# Altium footprint library SIM Card.PcbLib: 7 footprints
Each footprint in its own frame and in the unit in brackets; x right, y up, seen from the top. Pads: shape width x height; smd on the part's side, far side on the other; paste and mask are expansions set on the pad; w line width, h text height; cw(c..) or ccw(c..) is an arc to the next point about the centre after c.
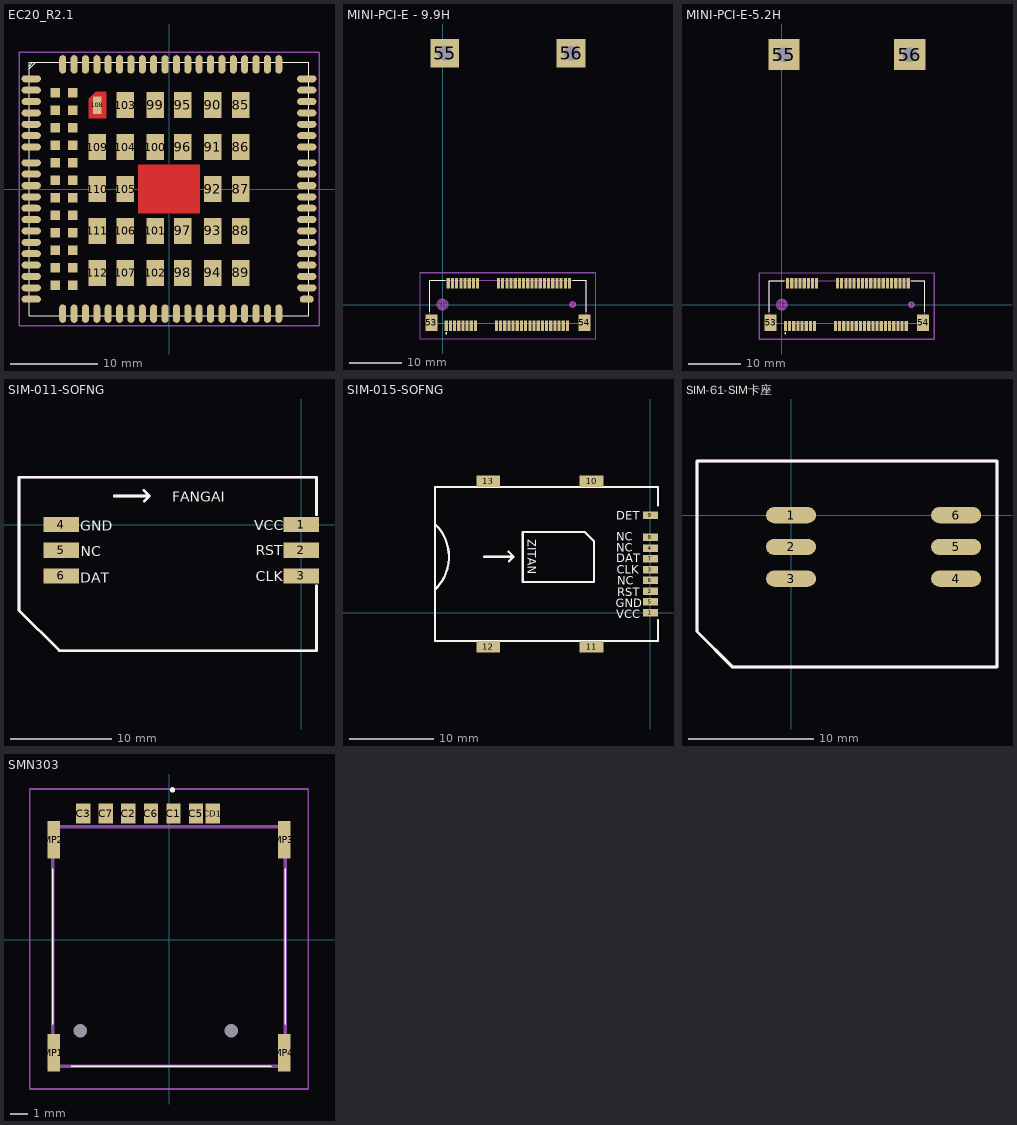
[diagram p0: the footprints below, top view; thin cyan lines are the x and y axes]

## EC20_R2.1 [mm]
pads (132):
  oval 2.2x0.8 smd mask+0.05: 1(-15.75,12.6) 2(-15.75,11.3) 3(-15.75,10) 4(-15.75,8.7) 5(-15.75,7.4) 6(-15.75,6.1) 7(-15.75,4.8) 8(-15.75,0.4) 9(-15.75,-0.9) 10(-15.75,-2.2) 11(-15.75,-3.5) 12(-15.75,-4.8) 13(-15.75,-6.1) 14(-15.75,-7.4) 15(-15.75,-8.7) 16(-15.75,-10) 17(-15.75,-11.3) 18(-15.75,-12.6) 38(15.75,-11.3) 39(15.75,-10) 40(15.75,-8.7) 41(15.75,-7.4) 42(15.75,-6.1) 43(15.75,-4.8) 44(15.75,-3.5) 45(15.75,-2.2) 46(15.75,-0.9) 47(15.75,0.4) 48(15.75,4.8) 49(15.75,6.1) 50(15.75,7.4) 51(15.75,8.7) 52(15.75,10) 53(15.75,11.3) 54(15.75,12.6) 141(-15.75,3) 142(-15.75,1.7) 143(15.75,1.7) 144(15.75,3)
  oval 0.8x2.1 smd mask+0.05: 19(-9.55,-14.25) 20(-8.25,-14.25) 21(-6.95,-14.25) 22(-5.65,-14.25) 23(-4.35,-14.25) 24(-3.05,-14.25) 25(-1.75,-14.25) 26(-0.45,-14.25) 27(0.85,-14.25) 28(2.15,-14.25) 29(3.45,-14.25) 30(4.75,-14.25) 31(6.05,-14.25) 32(7.35,-14.25) 33(8.65,-14.25) 34(9.95,-14.25) 35(11.25,-14.25) 36(12.55,-14.25) 55(12.55,14.25) 56(11.25,14.25) 57(9.95,14.25) 58(8.65,14.25) 59(7.35,14.25) 60(6.05,14.25) 61(4.75,14.25) 62(3.45,14.25) 63(2.15,14.25) 64(0.85,14.25) 65(-0.45,14.25) 66(-1.75,14.25) 67(-3.05,14.25) 68(-4.35,14.25) 69(-5.65,14.25) 70(-6.95,14.25) 71(-8.25,14.25) 72(-9.55,14.25) 113(-10.85,14.25) 114(-12.15,14.25) 115(-10.85,-14.25) 116(-12.15,-14.25)
  oval 1.6x0.8 smd mask+0.05: 37(15.75,-12.6)
  rect 2x3 smd mask+0.05: 85(8.2,9.6) 86(8.2,4.8) 87(8.2,0) 88(8.2,-4.8) 89(8.2,-9.6) 90(5,9.6) 91(5,4.8) 92(5,0) 93(5,-4.8) 94(5,-9.6) 95(1.6,9.6) 96(1.6,4.8) 97(1.6,-4.8) 98(1.6,-9.6) 99(-1.6,9.6) 100(-1.6,4.8) 101(-1.6,-4.8) 102(-1.6,-9.6) 103(-5,9.6) 104(-5,4.8) 105(-5,0) 106(-5,-4.8) 107(-5,-9.6) 109(-8.2,4.8) 110(-8.2,0) 111(-8.2,-4.8) 112(-8.2,-9.6)
  rect 1x2 smd: 108(-8.2,9.6)
  rect 1.1x1.1 smd mask+0.05: 117(-11,11) 118(-11,9) 119(-11,7) 120(-11,5) 121(-11,3) 122(-11,1) 123(-11,-1) 124(-11,-3) 125(-11,-5) 126(-11,-7) 127(-11,-9) 128(-11,-11) 129(-13,11) 130(-13,9) 131(-13,7) 132(-13,5) 133(-13,3) 134(-13,1) 135(-13,-1) 136(-13,-3) 137(-13,-5) 138(-13,-7) 139(-13,-9) 140(-13,-11)
Top Layer:
  region: -9.2,10.3 -8.4,11.1 -7.2,11.1 -7.2,8.1 -9.2,8.1
  pour cut-out: 3.5,2.8 -3.5,2.8 -3.5,-2.8 3.5,-2.8
Top Overlay:
  lines w0.102: -16,13.75 -15.25,14.5 ; -16,14.5 16,14.5 16,-14.5 -16,-14.5 -16,14.5 ; -16,14.5 -15.55,14.5 -16,14.05 -16,14.5
Top Paste:
  region: -9.2,10.3 -8.4,11.1 -7.2,11.1 -7.2,8.1 -9.2,8.1
Top Solder:
  region: -9.25,8.05 -7.15,8.05 -7.15,11.15 -8.45,11.15 -9.25,10.35
Mechanical 15:
  lines w0.152: -17.15,-15.65 -17.15,15.65 17.15,15.65 17.15,-15.65 -17.15,-15.65
  text "'.Designator'" at -7.2,-0.9 h2.54
3D body "EC20_R2.1_assy_3D_20171216.stp": height 2.4, standoff 0, extent -16,-14.5 16,14.5

## MINI-PCI-E - 9.9H [mm] "MINI PCI-e 52P贴片插座，间距0.8mm 高度9mm"
pads (56):
  rect 0.6x2 smd: 1(0.7,-4.1) 2(1.1,4.1) 3(1.5,-4.1) 4(1.9,4.1) 5(2.3,-4.1) 6(2.7,4.1) 7(3.1,-4.1) 8(3.5,4.1) 9(3.9,-4.1) 10(4.3,4.1) 11(4.7,-4.1) 12(5.1,4.1) 13(5.5,-4.1) 14(5.9,4.1) 15(6.3,-4.1) 16(6.7,4.1) 17(10.3,-4.1) 18(10.7,4.1) 19(11.1,-4.1) 20(11.5,4.1) 21(11.9,-4.1) 22(12.3,4.1) 23(12.7,-4.1) 24(13.1,4.1) 25(13.5,-4.1) 26(13.9,4.1) 27(14.3,-4.1) 28(14.7,4.1) 29(15.1,-4.1) 30(15.5,4.1) 31(15.9,-4.1) 32(16.3,4.1) 33(16.7,-4.1) 34(17.1,4.1) 35(17.5,-4.1) 36(17.9,4.1) 37(18.3,-4.1) 38(18.7,4.1) 39(19.1,-4.1) 40(19.5,4.1) 41(19.9,-4.1) 42(20.3,4.1) 43(20.7,-4.1) 44(21.1,4.1) 45(21.5,-4.1) 46(21.9,4.1) 47(22.3,-4.1) 48(22.7,4.1) 49(23.1,-4.1) 50(23.5,4.1) 51(23.9,-4.1) 52(24.3,4.1)
  rect 2.3x3.2 smd: 53(-2.15,-3.5) 54(27.15,-3.5)
  rect 5.5x5.5 hole 2.8: 55(0.4,48.05) 56(24.6,48.05)
Top Overlay:
  lines w0.1: -2.45,-1.4 -2.45,4.6 0.5,4.6 ; 24.9,4.6 27.45,4.6 27.45,-1.4
  lines w0.2: 0.6,-5.5 cw(c0.7,-5.5) 0.8,-5.5 cw(c0.7,-5.5) 0.6,-5.5
Keep-Out Layer:
  board cut-out: 24.55,0 24.55,-0.09 24.619,-0.255 24.745,-0.381 24.91,-0.45 25,-0.45 25.09,-0.45 25.255,-0.381 25.381,-0.255 25.45,-0.09 25.45,0 25.45,0.09 25.381,0.255 25.255,0.381 25.09,0.45 25,0.45 24.91,0.45 24.745,0.381 24.619,0.255 24.55,0.09
  board cut-out: 0,-0.7 -0.069,-0.7 -0.204,-0.673 -0.332,-0.62 -0.446,-0.544 -0.544,-0.446 -0.62,-0.332 -0.673,-0.204 -0.7,-0.069 -0.7,0 -0.7,0.069 -0.673,0.204 -0.62,0.332 -0.544,0.446 -0.446,0.544 -0.332,0.62 -0.204,0.673 -0.069,0.7 0,0.7 0.069,0.7 0.204,0.673 0.332,0.62 0.446,0.544 0.544,0.446 0.62,0.332 0.673,0.204 0.7,0.069 0.7,0 0.7,-0.069 0.673,-0.204 0.62,-0.332 0.544,-0.446 0.446,-0.544 0.332,-0.62 0.204,-0.673 0.069,-0.7
Mechanical 1:
  circle w0.1: c25,0 r0.45
  circle w0.1: c0,0 r0.7
Mechanical 13:
  lines w0.2: -2.45,-3.6 27.45,-3.6 27.45,4.6 -2.45,4.6 -2.45,-3.6
Mechanical 15:
  lines w0.1: -4.3,-6.6 29.3,-6.6 29.3,6.1 -4.3,6.1 -4.3,-6.6
Mechanical 29:
  circle w0.3: c24.892,0 r0.5
  circle w0.3: c0,0 r1
  lines w0.1: -4.25,-6.525 -4.25,6.175 29.35,6.175 29.35,-6.525 -4.25,-6.525
  text "'.Designator'" at 6.604,-0.508 h1.02
3D body "mini PEI-E 9.9h.stp": height 9.92, standoff -0.63, extent -2.5,-4.55 27.5,4.67

## MINI-PCI-E-5.2H [mm] "MINI PCI-e 52P贴片插座，间距0.8mm 高度9mm"
pads (56):
  rect 0.6x2 smd: 1(0.7,-4.1) 2(1.1,4.1) 3(1.5,-4.1) 4(1.9,4.1) 5(2.3,-4.1) 6(2.7,4.1) 7(3.1,-4.1) 8(3.5,4.1) 9(3.9,-4.1) 10(4.3,4.1) 11(4.7,-4.1) 12(5.1,4.1) 13(5.5,-4.1) 14(5.9,4.1) 15(6.3,-4.1) 16(6.7,4.1) 17(10.3,-4.1) 18(10.7,4.1) 19(11.1,-4.1) 20(11.5,4.1) 21(11.9,-4.1) 22(12.3,4.1) 23(12.7,-4.1) 24(13.1,4.1) 25(13.5,-4.1) 26(13.9,4.1) 27(14.3,-4.1) 28(14.7,4.1) 29(15.1,-4.1) 30(15.5,4.1) 31(15.9,-4.1) 32(16.3,4.1) 33(16.7,-4.1) 34(17.1,4.1) 35(17.5,-4.1) 36(17.9,4.1) 37(18.3,-4.1) 38(18.7,4.1) 39(19.1,-4.1) 40(19.5,4.1) 41(19.9,-4.1) 42(20.3,4.1) 43(20.7,-4.1) 44(21.1,4.1) 45(21.5,-4.1) 46(21.9,4.1) 47(22.3,-4.1) 48(22.7,4.1) 49(23.1,-4.1) 50(23.5,4.1) 51(23.9,-4.1) 52(24.3,4.1)
  rect 2.3x3.2 smd: 53(-2.15,-3.5) 54(27.15,-3.5)
  rect 6x6 hole 2.8: 55(0.4,48.05) 56(24.6,48.05)
Top Overlay:
  lines w0.1: -2.45,-1.4 -2.45,4.6 0.5,4.6 ; 24.9,4.6 27.45,4.6 27.45,-1.4
  lines w0.2: 0.6,-5.5 ccw(c0.7,-5.5) 0.8,-5.5 ccw(c0.7,-5.5) 0.6,-5.5
Keep-Out Layer:
  board cut-out: 0,-0.7 -0.069,-0.7 -0.204,-0.673 -0.332,-0.62 -0.446,-0.544 -0.544,-0.446 -0.62,-0.332 -0.673,-0.204 -0.7,-0.069 -0.7,0 -0.7,0.069 -0.673,0.204 -0.62,0.332 -0.544,0.446 -0.446,0.544 -0.332,0.62 -0.204,0.673 -0.069,0.7 0,0.7 0.069,0.7 0.204,0.673 0.332,0.62 0.446,0.544 0.544,0.446 0.62,0.332 0.673,0.204 0.7,0.069 0.7,0 0.7,-0.069 0.673,-0.204 0.62,-0.332 0.544,-0.446 0.446,-0.544 0.332,-0.62 0.204,-0.673 0.069,-0.7
  board cut-out: 24.55,0 24.55,-0.09 24.619,-0.255 24.745,-0.381 24.91,-0.45 25,-0.45 25.09,-0.45 25.255,-0.381 25.381,-0.255 25.45,-0.09 25.45,0 25.45,0.09 25.381,0.255 25.255,0.381 25.09,0.45 25,0.45 24.91,0.45 24.745,0.381 24.619,0.255 24.55,0.09
Mechanical 1:
  circle w0.1: c0,0 r0.7
  circle w0.1: c25,0 r0.45
Mechanical 13:
  lines w0.2: -2.45,-3.6 -2.45,4.6 27.45,4.6 27.45,-3.6 -2.45,-3.6
Mechanical 15:
  lines w0.1: -4.3,-6.6 -4.3,6.1 29.3,6.1 29.3,-6.6 -4.3,-6.6
Mechanical 29:
  circle w0.3: c0,0 r1
  circle w0.3: c24.892,0 r0.5
  lines w0.1: -4.25,-6.525 29.35,-6.525 29.35,6.175 -4.25,6.175 -4.25,-6.525
  text "'.Designator'" at 6.604,-0.508 h1.02
3D body "mini PCI-E 5.6H.stp": height 5.77, standoff -0.48, extent -2.45,-4.555 27.45,4.525

## SIM-011-SOFNG [mm]
pads (6):
  rect 3.5x1.5 smd: 1(-0.005,-0.009) 2(-0.005,-2.549) 3(-0.005,-5.089) 4(-23.805,-0.009) 5(-23.805,-2.549) 6(-23.805,-5.089)
Top Overlay:
  lines w0.254: -18.576,2.835 -15.071,2.835 ; -15.655,3.42 -15.071,2.835 ; -15.605,2.302 -15.071,2.835 ; 1.495,-6.08 1.495,-12.509 -24.005,-12.509 -28.005,-8.509 -28.005,4.691 1.495,4.691 1.495,0.956
  text "GND" at -21.925,-0.619 h1
  text "DAT" at -21.95,-5.75 h1
  text "CLK" at -4.53,-5.597 h1
  text "NC" at -21.9,-3.159 h1
  text "RST" at -4.505,-3.032 h1
  text "VCC" at -4.683,-0.568 h1
  text "FANGAI" at -12.811,2.251 h1
Mechanical 29:
  lines w0.254: -18.576,2.835 -15.071,2.835 ; -15.655,3.42 -15.071,2.835 ; -15.605,2.302 -15.071,2.835 ; 1.495,-6.08 1.495,-12.509 -24.005,-12.509 -28.005,-8.509 -28.005,4.691 1.495,4.691 1.495,0.956
  text "'.Designator'" at -17.272,-4.572 h1.02

## SIM-015-SOFNG [mm]
pads (13):
  rect 1.8x0.9 smd: 1(0,0) 2(0,2.54) 3(0,5.08) 4(0,7.62) 5(0,1.27) 6(0,3.81) 7(0,6.35) 8(0,8.89) 9(0,11.49)
  rect 2.8x1.35 smd: 10(-6.95,15.515) 11(-6.95,-4.035) 12(-19.15,-4.035) 13(-19.15,15.515)
Top Overlay:
  lines w0.254: -25.45,2.726 ccw(c-29.187,6.59) -25.324,10.327 ; -19.679,6.604 -16.174,6.604 ; -16.758,7.188 -16.174,6.604 ; -16.707,6.07 -16.174,6.604 ; -15.088,9.5 -15.088,3.607 -14.656,3.607 -13.36,3.607 ; -15.062,9.525 -13.106,9.525 ; -13.665,3.607 -6.655,3.607 -6.655,8.407 -7.772,9.525 -13.665,9.525 ; 0.9,-0.914 0.9,-3.36 -25.45,-3.36 -25.45,14.84 0.9,14.84 0.9,12.649
  text "ZITAN" at -14.472,8.686 h1
  text "VCC" at -4.064,-0.66 h1
  text "RST" at -3.937,1.905 h1
  text "NC" at -3.912,3.277 h1
  text "CLK" at -3.988,4.597 h1
  text "DAT" at -4.039,5.918 h1
  text "NC" at -4.013,7.188 h1
  text "NC" at -4.013,8.484 h1
  text "DET" at -4.039,10.998 h1
  text "GND" at -4.089,0.61 h1
Mechanical 29:
  lines w0.254: -25.45,2.726 ccw(c-29.187,6.59) -25.324,10.327 ; -19.679,6.604 -16.174,6.604 ; -16.758,7.188 -16.174,6.604 ; -16.707,6.07 -16.174,6.604 ; 0.9,-0.914 0.9,-3.36 -25.45,-3.36 -25.45,14.84 0.9,14.84 0.9,12.649
  text "'.Designator'" at -15.24,6.07 h1.02
3D body: height 2, standoff 0, extent -25.3,-3.375 0.875,14.8

## SIM-61-SIM卡座 [mm]
pads (6):
  oval 4x1.3 smd: 1(0,0) 2(0,-2.54) 3(0,-5.08) 4(13.208,-5.08) 5(13.208,-2.54) 6(13.208,0)
Top Overlay:
  lines w0.254: -7.524,-9.31 -4.674,-12.16 16.476,-12.16 16.476,4.34 -7.524,4.34 -7.524,-9.31
Mechanical 29:
  lines w0.254: -7.524,-9.31 -7.524,4.34 16.476,4.34 16.476,-12.16 -4.674,-12.16 -7.524,-9.31
  text "'.Designator'" at -0.508,-3.556 h1.02
3D body "Sim Card Holder.STEP": height 1.8, standoff 0, extent -0.022,-12.082 16.278,4.318

## SMN303 [mm] "Nano SIM 自弹"
pads (13):
  rect 0.8x1.14 smd: C1(0.25,7.115) C2(-2.29,7.115) C3(-4.83,7.115) C5(1.52,7.115) C6(-1.02,7.115) C7(-3.56,7.115) CD1(2.47,7.115)
  round 0.375 hole 0.75 unplated: MH1(3.5,-5.115) MH2(-5,-5.115)
  rect 0.7x2.1 smd: MP1(-6.5,-6.365) MP2(-6.5,5.635) MP3(6.5,5.635) MP4(6.5,-6.365)
Top Overlay:
  lines w0.1: -6.545,-4.75 -6.545,4 ; -5.5,-7.115 5.75,-7.115 ; 6.545,-4.75 6.545,4
  lines w0.2: 0.2,8.4 cw(c0.2,8.45) 0.2,8.5 ; 0.2,8.4 ccw(c0.2,8.45) 0.2,8.5 ; 0.2,8.4 cw(c0.2,8.45) 0.2,8.5
Mechanical 13:
  lines w0.2: -6.545,-7.115 -6.545,6.385 6.545,6.385 6.545,-7.115 -6.545,-7.115
Mechanical 15:
  lines w0.1: -7.85,-8.4 -7.85,8.5 7.85,8.5 7.85,-8.4 -7.85,-8.4
  text "'.Designator'" at -5.7,-0.6 h2.03
3D body "micro sim card.stp": height 1.15, standoff -0.73, extent -7.74,-7.45 7.75,8.55